# Altium schematic symbol library ICs.SchLib: 134 symbols (part 6 of 7)
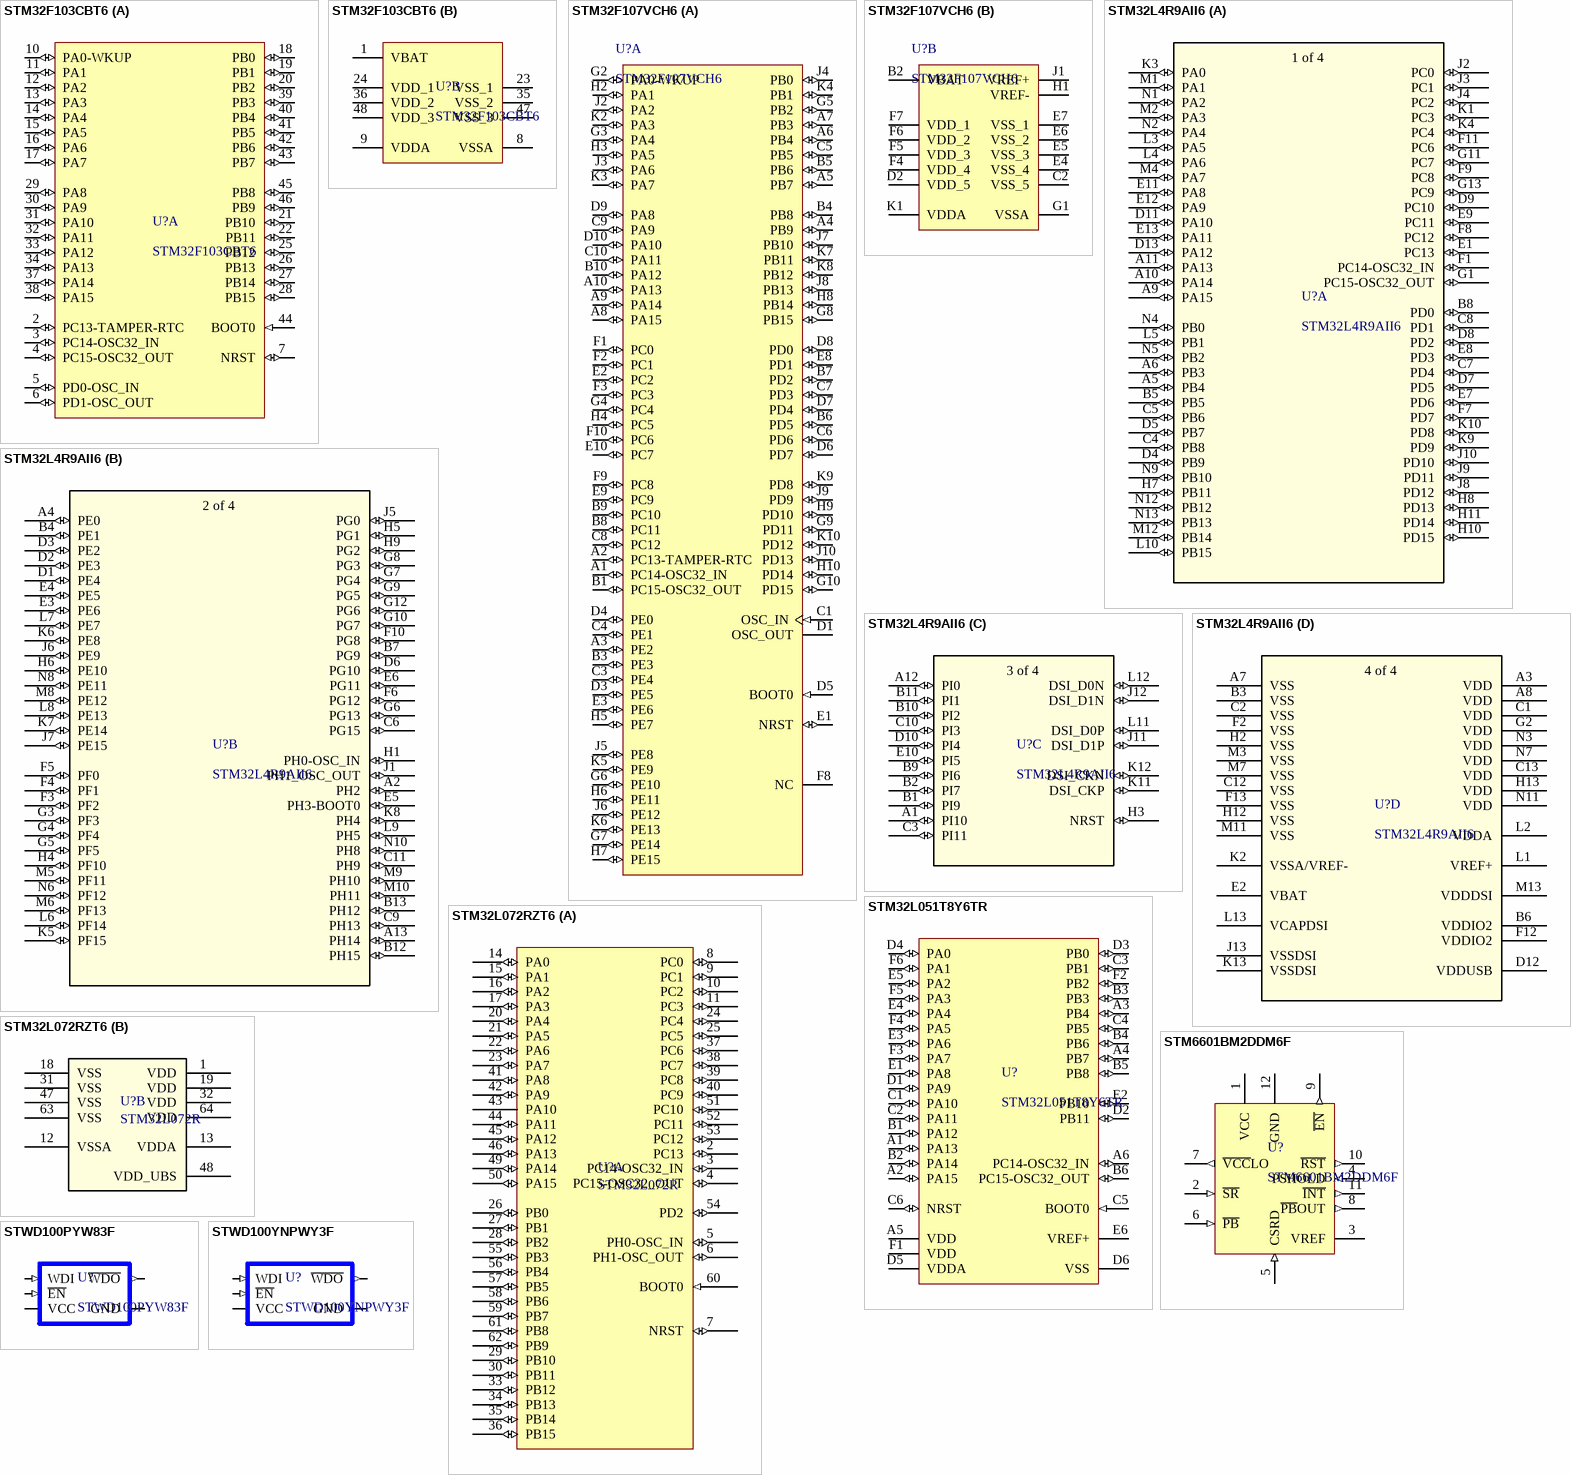
[diagram p31: symbols STM32F103CBT6 to STWD100YNPWY3F]

## STM32L051T8Y6TR
designator U?
Ultra-low-power ARM Cortex-M0+ MCU with 64 Kbytes Flash, 32 MHz CPU; Manufacturer: STMicroelectronics; Supplier: Mouser; Supplier Part Number: 511-STM32L051T8Y6TR; Manufacturer Part Number: STM32L051T8Y6TR; RoHS: Yes; Category: Microcontrollers; Stock: 9000; Pricing: 1=3,78, 10=3,49, 50=3,35, 100=3,01, 1000=2,43, 10000=2,36 (USD); ComponentLink1URL: http://www.mouser.com/ds/2/389/stm32l051c6-956268.pdf?src-supplier=Mouser; ComponentLink1Description: http://www.mouser.com/ds/2/389/stm32l051c6-956268.pdf?src-supplier=Mouser; ComponentLink2URL: http://www.farnell.com/datasheets/2308809.pdf?src-supplier=Farnell; ComponentLink2Description: http://www.farnell.com/datasheets/2308809.pdf?src-supplier=Farnell; ComponentLink3URL: http://www.farnell.com/datasheets/1964276.pdf?src-supplier=Farnell; ComponentLink3Description: http://www.farnell.com/datasheets/1964276.pdf?src-supplier=Farnell; ComponentLink4URL: http://www.st.com/web/en/resource/technical/document/datasheet/DM00108219.pdf?src-supplier=Avnet; ComponentLink4Description: http://www.st.com/web/en/resource/technical/document/datasheet/DM00108219.pdf?src-supplier=Avnet; ComponentLink5URL: http://www.st.com/content/ccc/resource/technical/document/datasheet/9a/75/bd/16/0f/fd/49/19/DM00108219.pdf/files/DM00108219.pdf/jcr:content/translations/en.DM00108219.pdf?src-supplier=Digi-Key; ComponentLink5Description: http://www.st.com/content/ccc/resource/technical/document/datasheet/9a/75/bd/16/0f/fd/49/19/DM00108219.pdf/files/DM00108219.pdf/jcr:content/translations/en.DM00108219.pdf?src-supplier=Digi-Key; ComponentLink6URL: http://www.farnell.com/datasheets/1964276.pdf?src-supplier=Element14; ComponentLink6Description: http://www.farnell.com/datasheets/1964276.pdf?src-supplier=Element14; ComponentLink7URL: https://datasheet.octopart.com/STM32L051T8Y6TR-STMicroelectronics-datasheet-112327230.pdf?src-supplier=LKR; ComponentLink7Description: https://datasheet.octopart.com/STM32L051T8Y6TR-STMicroelectronics-datasheet-112327230.pdf?src-supplier=LKR; Supplier 1: Mouser; Supplier Part Number 1: 511-STM32L051T8Y6TR
footprint BGA36C40P6X6_287X260X59 (BGA, 36-Leads, Body 2,87x2,60mmx0,59mm, Pitch 0,40mm)
pins: A1 PA13 (io), A2 PA15 (io), A3 PB4 (io), A4 PB7 (io), A5 VDD (power), A6 PC14-OSC32_IN (io), B1 PA12 (io), B2 PA14 (io), B3 PB3 (io), B4 PB6 (io), B5 PB8 (io), B6 PC15-OSC32_OUT (io), C1 PA10 (io), C2 PA11 (io), C3 PB1 (io), C4 PB5 (io), C5 BOOT0 (in), C6 NRST (io), D1 PA9 (io), D2 PB11 (io), D3 PB0 (io), D4 PA0 (io), D5 VDDA (power), D6 VSS (power), E1 PA8 (io), E2 PB10 (io), E3 PA6 (io), E4 PA4 (io), E5 PA2 (io), E6 VREF+ (power), F1 VDD (power), F2 PB2 (io), F3 PA7 (io), F4 PA5 (io), F5 PA3 (io), F6 PA1 (io)

## STM32L072RZT6
designator U?, comment STM32L072R
16/32-BITS MICROS; Manufacturer: STMicroelectronics; Manufacturer Part Number: STM32L072RZT6; .CheckedSchemetic: Yes; Core Processor: ARM® Cortex®-M0+; Core Size: 32-Bit; Speed: 32MHz; Connectivity: I²C, IrDA, SPI, UART/USART, USB; Peripherals: Brown-out Detect/Reset, DMA, POR, PWM, WDT; Program Memory Size: 192KB (192K x 8); Program Memory Type: FLASH; EEPROM Size: 6K x 8; RAM Size: 20K x 8; Voltage - Supply (Vcc/Vdd): 1.8 V ~ 3.6 V; Data Converters: A/D 16x12b, D/A 2x12b; Oscillator Type: Internal; Supplier 1: Digi-Key; Supplier Part Number 1: STM32L072RZT6-ND; Stock 1: 0; Pricing 1: 960=2.74564 (USD); ComponentLink1URL: http://www.mouser.com/ds/2/389/stm32l072v8-956310.pdf; ComponentLink1Description: http://www.mouser.com/ds/2/389/stm32l072v8-956310.pdf; ComponentLink2URL: http://www.st.com/content/ccc/resource/technical/document/datasheet/98/e1/71/c0/ae/f5/4b/d4/DM00141133.pdf/files/DM00141133.pdf/jcr:content/translations/en.DM00141133.pdf; ComponentLink2Description: http://www.st.com/content/ccc/resource/technical/document/datasheet/98/e1/71/c0/ae/f5/4b/d4/DM00141133.pdf/files/DM00141133.pdf/jcr:content/translations/en.DM00141133.pdf; .CheckedFootprint: Yes; Supplier 2: Digi-Key; RoHS: RoHS Compliant; Category: Integrated Circuits (ICs); Stock: 957; Pricing: 1=5.36, 10=4.812, 100=3.9429, 500=3.35652, 1000=2.8308 (USD); Packaging: Tray; Part Status: Active; Operating Temperature: -40°C ~ 85°C (TA); Package / Case: 64-LQFP; Supplier Device Package: 64-LQFP (10x10); Supplier Part Number 2: 497-17505-ND
footprint TSQFP50P1200X1200X160-64N (TSQFP, 64-Leads, Body 10.00x10.00mm, Pitch 0.50mm, IPC Medium Density)
part A pins: 2 PC13 (io), 3 PC14-OSC32_IN (io), 4 PC15-OSC32_OUT (io), 5 PH0-OSC_IN (io), 6 PH1-OSC_OUT (io), 7 NRST (io), 8 PC0 (io), 9 PC1 (io), 10 PC2 (io), 11 PC3 (io), 14 PA0 (io), 15 PA1 (io), 16 PA2 (io), 17 PA3 (io), 20 PA4 (io), 21 PA5 (io), 22 PA6 (io), 23 PA7 (io), 24 PC4 (io), 25 PC5 (io), 26 PB0 (io), 27 PB1 (io), 28 PB2 (io), 29 PB10 (io), 30 PB11 (io), 33 PB12 (io), 34 PB13 (io), 35 PB14 (io), 36 PB15 (io), 37 PC6 (io), 38 PC7 (io), 39 PC8 (io), 40 PC9 (io), 41 PA8 (io), 42 PA9 (io), 43 PA10 (power), 44 PA11 (io), 45 PA12 (io), 46 PA13 (io), 49 PA14 (io), 50 PA15 (io), 51 PC10 (io), 52 PC11 (io), 53 PC12 (io), 54 PD2 (io), 55 PB3 (io), 56 PB4 (io), 57 PB5 (io), 58 PB6 (io), 59 PB7 (io), 60 BOOT0 (in), 61 PB8 (io), 62 PB9 (io)
part B pins: 1 VDD (power), 12 VSSA (power), 13 VDDA (power), 18 VSS (power), 19 VDD (power), 31 VSS (power), 32 VDD (power), 47 VSS (power), 48 VDD_UBS (power), 63 VSS (power), 64 VDD (power)

## STM6601BM2DDM6F
designator U?
IC SUPERVISOR 3.1V 12TDFN; Manufacturer: STMicroelectronics; Number of Voltages Monitored: 1; Output: Open Drain or Open Collector; Reset: Active Low; Reset Timeout: 240 ms Minimum; Supplier 1: Digi-Key; Manufacturer Part Number: STM6601BM2DDM6F; RoHS: RoHS Compliant; Category: Integrated Circuits (ICs); Stock 1: 1171; Pricing 1: 1=1.41, 10=1.264, 100=0.9855, 500=0.81412, 1000=0.64272 (USD); Packaging: Digi-Reel®; Part Status: Active; Type: Smart ON/OFF Controller; Voltage - Threshold: 3.1V; Operating Temperature: -40°C ~ 85°C (TA); Mounting Type: Surface Mount; Package / Case: 12-WFDFN; Supplier Device Package: 12-TDFN (2x3); ComponentLink1URL: http://www.st.com/content/ccc/resource/technical/document/datasheet/1f/9e/3b/43/ec/04/44/71/CD00226957.pdf/files/CD00226957.pdf/jcr:content/translations/en.CD00226957.pdf; ComponentLink1Description: http://www.st.com/content/ccc/resource/technical/document/datasheet/1f/9e/3b/43/ec/04/44/71/CD00226957.pdf/files/CD00226957.pdf/jcr:content/translations/en.CD00226957.pdf; Supplier Part Number 1: 497-10130-6-ND
footprint SON50P200X80-12N (SON, 12-Leads, Body 3.00x2.00mm, Pitch 0.50mm, IPC Medium Density)
pins: 1 VCC (power), 2 ~{SR} (in), 3 VREF (power), 4 PSHOLD (in), 5 CSRD (in), 6 ~{PB} (in), 7 ~{VCC}LO (out), 8 ~{PB}OUT (out), 9 ~{EN} (out), 10 ~{RST} (out), 11 ~{INT} (out), 12 GND (power)

## STWD100PYW83F
designator U?
IC WDT CIRCUIT SOT323-5; Manufacturer: STMicroelectronics; Number of Voltages Monitored: 1; Output: Push-Pull, Totem Pole; Reset: Active Low; Reset Timeout: 1.12 s Minimum; Supplier 1: Digi-Key; Manufacturer Part Number: STWD100PYW83F; RoHS: RoHS Compliant; Category: Integrated Circuits (ICs); Stock 1: 1455; Pricing 1: 1=0.89, 10=0.785, 100=0.602, 500=0.47586, 1000=0.38069 (USD); Packaging: Digi-Reel®; Part Status: Active; Type: Watchdog Circuit; Voltage - Threshold: -; Operating Temperature: -40°C ~ 125°C (TA); Mounting Type: Surface Mount; Package / Case: 5-TSSOP, SC-70-5, SOT-353; Supplier Device Package: SOT-323-5; ComponentLink1URL: http://www.st.com/content/ccc/resource/technical/document/datasheet/06/6a/b3/83/9a/c7/4f/22/CD00176077.pdf/files/CD00176077.pdf/jcr:content/translations/en.CD00176077.pdf; ComponentLink1Description: http://www.st.com/content/ccc/resource/technical/document/datasheet/06/6a/b3/83/9a/c7/4f/22/CD00176077.pdf/files/CD00176077.pdf/jcr:content/translations/en.CD00176077.pdf; Supplier Part Number 1: 497-13372-6-ND
footprint SOT65P210X110-5N (SOT23, 5-Leads, Body 2.00x2.10mm, Pitch 0.65mm, IPC Medium Density)
pins: 1 ~{WDO} (out), 2 GND (power), 3 ~{EN} (in), 4 WDI (in), 5 VCC (power)

## STWD100YNPWY3F
designator U?
IC WATCHDOG TIME CIRCUIT SOT23-5; Manufacturer: STMicroelectronics; Number of Voltages Monitored: 1; Output: Open Drain or Open Collector; Reset: Active Low; Reset Timeout: 2.3 ms Minimum; Supplier 1: Digi-Key; Supplier Part Number 1: 497-14076-6-ND; Manufacturer Part Number: STWD100YNPWY3F; RoHS: RoHS Compliant; Category: Integrated Circuits (ICs); Stock 1: 2885; Pricing 1: 1=0.85, 10=0.758, 100=0.591, 500=0.48874, 1000=0.3865 (EUR); Packaging: Digi-Reel®; Part Status: Active; Type: Watchdog Circuit; Voltage - Threshold: -; Operating Temperature: -40°C ~ 125°C (TA); Mounting Type: Surface Mount; Package / Case: SC-74A, SOT-753; Supplier Device Package: SOT-23-5; ComponentLink1URL: http://www.st.com/web/en/resource/technical/document/datasheet/CD00176077.pdf; ComponentLink1Description: http://www.st.com/web/en/resource/technical/document/datasheet/CD00176077.pdf
pins: 1 ~{WDO} (out), 2 GND (power), 3 ~{EN} (in), 4 WDI (in), 5 VCC (power)

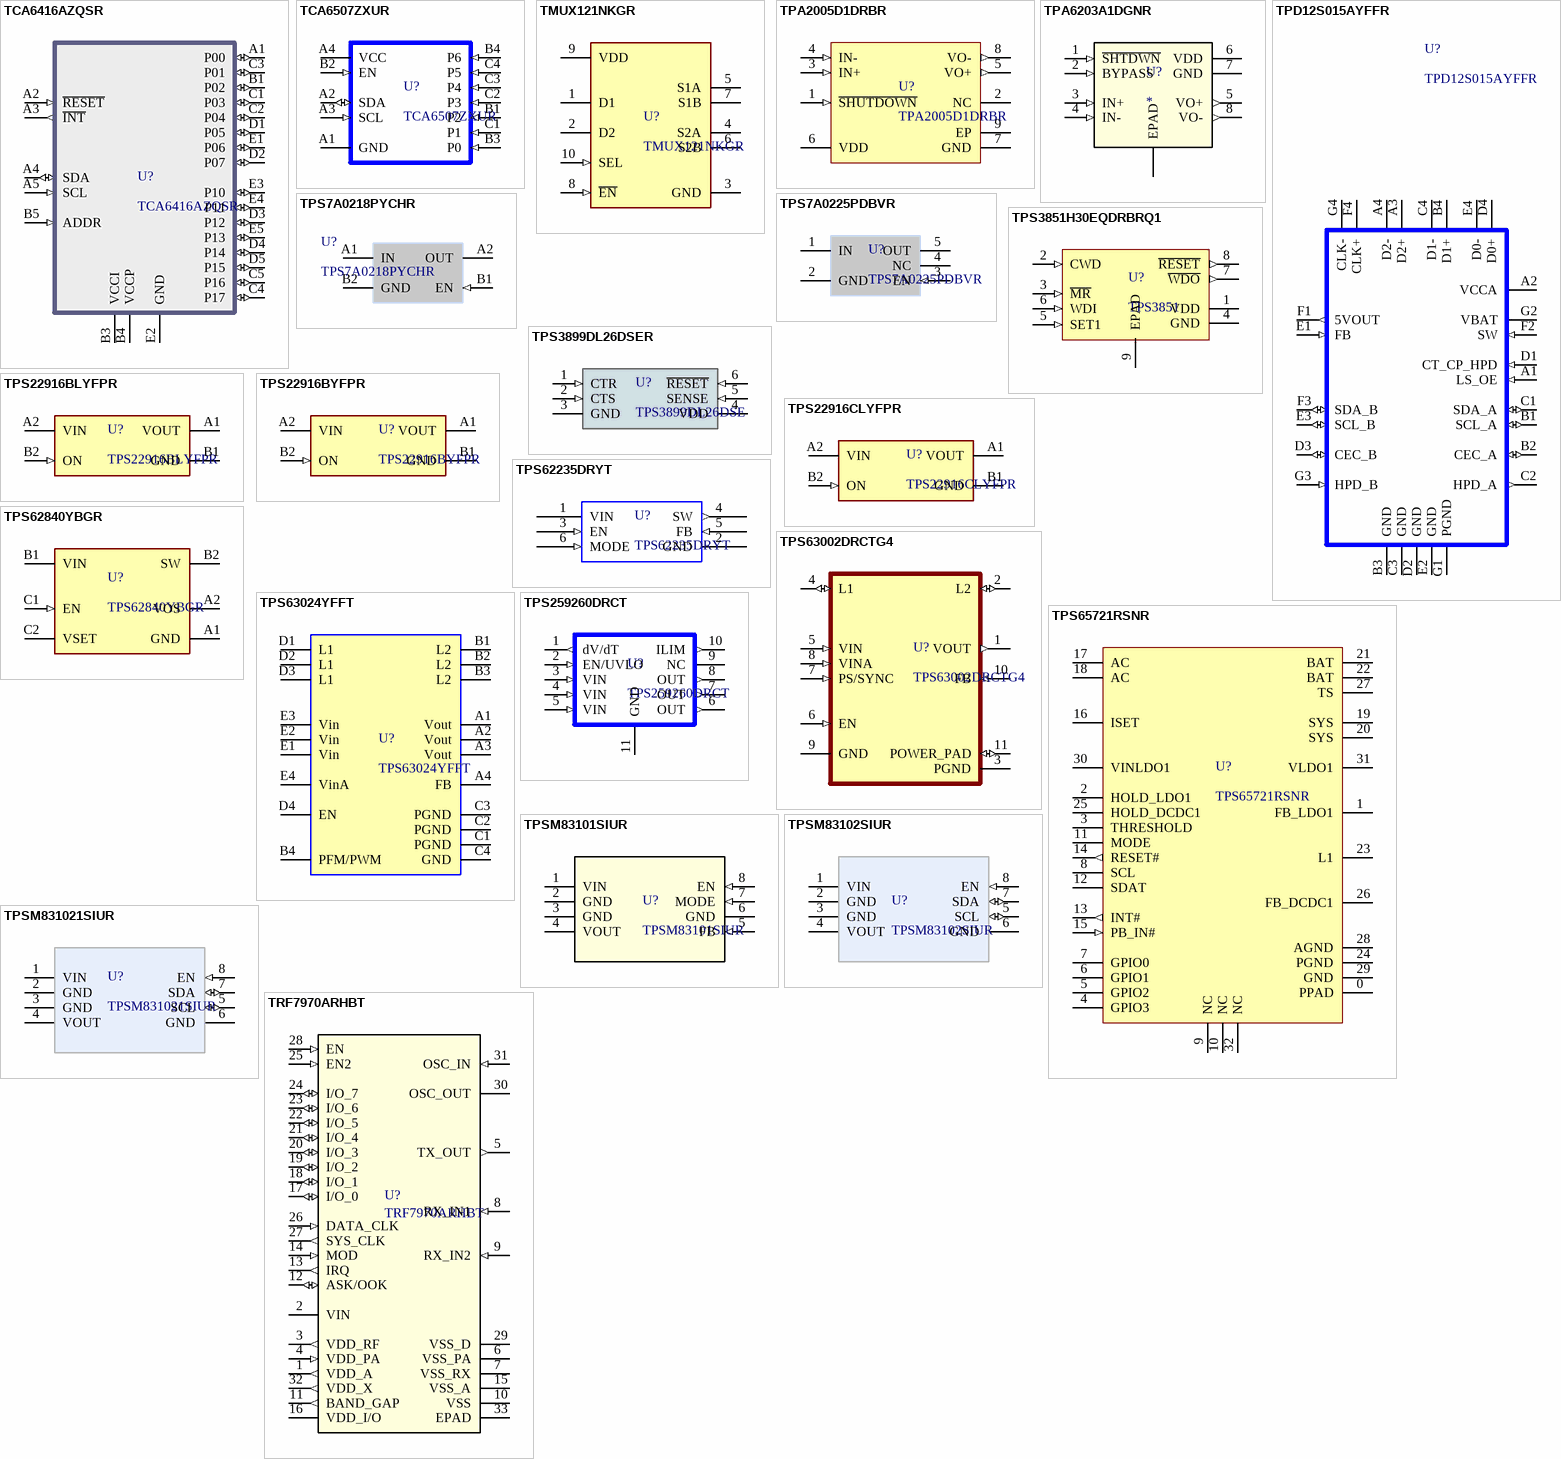
[diagram p25: symbols TCA6416AZQSR to TRF7970ARHBT]

## TCA6416AZQSR
designator U?
IC I/O EXPANDER I2C 16B 24BGA; Manufacturer: Texas Instruments; Number of I/O: 16; Interface: I²C, SMBus; Interrupt Output: Yes; Output Type: Push-Pull; Current - Output Source/Sink: 10mA, 25mA; Frequency - Clock: 400kHz; Voltage - Supply: 1.65 V ~ 5.5 V; Supplier 1: Digi-Key; Supplier Part Number 1: 296-24559-6-ND; Manufacturer Part Number: TCA6416AZQSR; RoHS: RoHS Compliant; Category: Integrated Circuits (ICs); Stock 1: 3272; Pricing 1: 1=1.52, 10=1.356, 100=1.0567, 500=0.87388, 1000=0.69107 (EUR); Packaging: Digi-Reel®; Part Status: Active; Features: POR; Operating Temperature: -40°C ~ 85°C; Mounting Type: Surface Mount; Package / Case: 24-VFBGA; Supplier Device Package: 24-BGA MICROSTAR JUNIOR (3x3); ComponentLink1URL: http://www.ti.com/lit/ds/symlink/tca6416a.pdf; ComponentLink1Description: http://www.ti.com/lit/ds/symlink/tca6416a.pdf
ibis TCA6416AZQS (Model Description)
footprint BGA24C50P5X5_300X300X100 (BGA, 24-Leads, Body 3.00x3.00mmx1.00mm, Pitch 0.50mm)
pins: A1 P00 (io), A2 ~{RESET} (in), A3 ~{INT} (out), A4 SDA (io), A5 SCL (in), B1 P02 (io), B3 VCCI (power), B4 VCCP (power), B5 ADDR (in), C1 P03 (io), C2 P04 (io), C3 P01 (io), C4 P17 (io), C5 P16 (io), D1 P05 (io), D2 P07 (io), D3 P12 (io), D4 P14 (io), D5 P15 (io), E1 P06 (io), E2 GND (power), E3 P10 (io), E4 P11 (io), E5 P13 (io)

## TCA6507ZXUR
designator U?
IC LED DRIVER LINEAR 12-BGA; Manufacturer: Texas Instruments; Topology: Open Drain, PWM; Number of Outputs: 7; Internal Driver: Yes; Type - Primary: General Purpose; Frequency: 100kHz, 400kHz; Voltage - Supply: 1.65 V ~ 3.6 V; Voltage - Output: 5.5V; Supplier 1: Digi-Key; Supplier Part Number 1: 296-22778-6-ND; Manufacturer Part Number: TCA6507ZXUR; RoHS: RoHS Compliant; Category: Integrated Circuits (ICs); Stock 1: 4198; Pricing 1: 1=1.57, 10=1.42, 25=1.2724, 100=1.1444, 250=1.01616, 500=0.88788, 750=0.80403, 1000=0.73497 (EUR); Packaging: Digi-Reel®; Constant Current: -; Constant Voltage: -; Type - Secondary: -; Mounting Type: Surface Mount; Package / Case: 12-UFBGA; Supplier Device Package: 12-BGA MICROSTAR JUNIOR (2.5x2.0); Operating Temperature: -40°C ~ 85°C; ComponentLink1URL: http://www.ti.com/lit/ds/symlink/tca6507.pdf; ComponentLink1Description: http://www.ti.com/lit/ds/symlink/tca6507.pdf
footprint BGA12C50P4X3_250X200X61_2 (BGA, 12-Leads, Body 2.50x2.00mmx0.61mm, Pitch 0.50mm)
pins: A1 GND (power), A2 SDA (io), A3 SCL (in), A4 VCC (power), B1 P2 (in), B2 EN (in), B3 P0 (in), B4 P6 (in), C1 P1 (in), C2 P3 (in), C3 P4 (in), C4 P5 (in)

## TMUX121NKGR
designator U?
2-pF, 3.3-V, 2: 1 (SPDT), 2-channel, switch with 1.8-V compatible logic 10-UQFN -40 to 125; Manufacturer: Texas Instruments; Supplier: Digikey; Supplier Part Number: 296-TMUX121NKGRCT-ND; Manufacturer Part Number: TMUX121NKGR; RoHS: No; Category: Integrated Circuits (ICs); Stock: 3689; Pricing: 1=0.9, 10=0.793, 25=0.7452, 100=0.6082, 250=0.56488, 500=0.48076, 1000=0.38461 (USD); Pins: 10; Length: 1.8mm; Width: 1.4mm; Thickness: 450um; Supplier 1: Mouser; Supplier Part Number 1: 595-TMUX121NKGR; Supplier 2: Digikey; Supplier Part Number 2: 296-TMUX121NKGRCT-ND; Supplier 3: Digikey; Supplier Part Number 3: 296-TMUX121NKGRDKR-ND
footprint FP-NKG0010A-MFG
pins: 1 D1, 2 D2, 3 GND (power), 4 S2A, 5 S1A, 6 S2B, 7 S1B, 8 ~{EN} (in), 9 VDD (power), 10 SEL (in)

## TPA2005D1DRBR
designator U?
IC AMP AUDIO PWR 1.45W MONO 8SON; Manufacturer: Texas Instruments; Supplier: Mouser; Supplier Part Number: 595-TPA2005D1DRBR; Manufacturer Part Number: TPA2005D1DRBR; RoHS: Yes; Category: Amplifiers - Audio; Stock: 3004; Pricing: 1=1,23, 10=1,08, 50=1,08, 100=0,836, 1000=0,569, 10000=0,494 (USD); ComponentLink1URL: https://datasheet.ciiva.com/15131/getdatasheetpartid-202736-15131808.pdf?src-supplier=Verical; ComponentLink1Description: https://datasheet.ciiva.com/15131/getdatasheetpartid-202736-15131808.pdf?src-supplier=Verical; ComponentLink2URL: https://datasheet.ciiva.com/2968/tpa2005d1-2968131.pdf?src-supplier=Avnet; ComponentLink2Description: https://datasheet.ciiva.com/2968/tpa2005d1-2968131.pdf?src-supplier=Avnet; ComponentLink3URL: https://datasheet.ciiva.com/1788/tpa2005d1-1788983.pdf?src-supplier=Digi-Key; ComponentLink3Description: https://datasheet.ciiva.com/1788/tpa2005d1-1788983.pdf?src-supplier=Digi-Key; ComponentLink4URL: https://datasheet.ciiva.com/1788/tpa2005d1-1788984.pdf?src-supplier=Digi-Key; ComponentLink4Description: https://datasheet.ciiva.com/1788/tpa2005d1-1788984.pdf?src-supplier=Digi-Key; ComponentLink5URL: https://datasheet.ciiva.com/1788/tpa2005d1-1788985.pdf?src-supplier=Digi-Key; ComponentLink5Description: https://datasheet.ciiva.com/1788/tpa2005d1-1788985.pdf?src-supplier=Digi-Key; ComponentLink6URL: https://datasheet.ciiva.com/1490/1633631-1490332.pdf?src-supplier=Farnell; ComponentLink6Description: https://datasheet.ciiva.com/1490/1633631-1490332.pdf?src-supplier=Farnell; ComponentLink7URL: https://datasheet.ciiva.com/22712/1808393-22712155.pdf?src-supplier=Element14; ComponentLink7Description: https://datasheet.ciiva.com/22712/1808393-22712155.pdf?src-supplier=Element14; ComponentLink8URL: https://datasheet.ciiva.com/1481/1808393-1481981.pdf?src-supplier=Element14; ComponentLink8Description: https://datasheet.ciiva.com/1481/1808393-1481981.pdf?src-supplier=Element14; Supplier 1: Mouser; Supplier Part Number 1: 595-TPA2005D1DRBR
footprint SON65P300X40_HS-9N (SON, 8-Leads, Body 3,00x3,00mm, Pitch 0,65mm, Thermal Pad 1,75x1,49mm, IPC Medium Density)
pins: 1 ~{SHUTDOWN} (in) "Shutdown terminal (active low logic)", 2 NC "No internal connection", 3 IN+ (in) "Positive differential input", 4 IN- (in) "Negative differential input", 5 VO+ (out) "Positive BTL output", 6 VDD (power) "Power supply", 7 GND (power) "High-current ground", 8 VO- (out) "Negative BTL output", 9 EP (power) "Must be soldered to a grounded pad on the PCB."

## TPA6203A1DGNR
designator U?
TEXAS INSTRUMENTS         TPA6203A1DGNR             Audio Power Amplifier, AB, 1 Channel, 1.25 W, 2.5V to 5.5V, MSOP, 8 Pins; Output Power: 1.25W; Nominal Supply Current: 1.7mA; Common Mode Rejection Ratio: 70dB; Max Power Dissipation: 2.14W; Number of Channels: 1; Power Supply Rejection Ratio (PSRR): -90dB; Supply Type: Single; Load Impedance: 8R; Supplier 1: Digi-Key; Manufacturer: Texas Instruments; Manufacturer Part Number: TPA6203A1DGNR; Stock 1: 3366; Pricing 1: 1=0.88, 10=0.79, 100=0.6159, 500=0.50882, 1000=0.4017 (USD); Case/Package: MSOP; Number of Pins: 8; Weight: 0.00067oz; Contact Plating: Gold; Min Operating Temperature: -40°C; Max Operating Temperature: 85°C; Packaging: Tape and Reel; Package Quantity: 2500; Max Output Power: 1.25W; Min Supply Voltage: 2.5V; Max Supply Voltage: 5.5V; Quiescent Current: 1.7mA; Radiation Hardening: No; Lead Free: Lead Free; REACH SVHC: No SVHC; ComponentLink1URL: https://datasheet.ciiva.com/1788/tpa6203a1-1788940.pdf; ComponentLink1Description: https://datasheet.ciiva.com/1788/tpa6203a1-1788940.pdf; ComponentLink2URL: https://datasheet.ciiva.com/8049/1851976-8049821.pdf; ComponentLink2Description: https://datasheet.ciiva.com/8049/1851976-8049821.pdf; ComponentLink3URL: https://datasheet.ciiva.com/2970/tpa6203a1-2970139.pdf; ComponentLink3Description: https://datasheet.ciiva.com/2970/tpa6203a1-2970139.pdf; ComponentLink4URL: https://datasheet.ciiva.com/1788/tpa6203a1-1788938.pdf; ComponentLink4Description: https://datasheet.ciiva.com/1788/tpa6203a1-1788938.pdf; ComponentLink5URL: https://datasheet.ciiva.com/1788/tpa6203a1-1788939.pdf; ComponentLink5Description: https://datasheet.ciiva.com/1788/tpa6203a1-1788939.pdf; Supplier Part Number 1: 296-19604-1-ND
footprint TSOP65P490X110_HS-9N (TSOP, 8-Leads, Body 3.00x3.00mm, Pitch 0.65mm, Thermal Pad 1.89x1.57mm, IPC Medium Density)
pins: 1 ~{SHTDWN} (in), 2 BYPASS (in), 3 IN+ (in), 4 IN- (in), 5 VO+ (out), 6 VDD (power), 7 GND (power), 8 VO- (out), 9 EPAD

## TPD12S015AYFFR
designator U?
IC HDMI ESD PROT 28DSBGA; Manufacturer: Texas Instruments; Voltage - Supply: 1.1 V ~ 3.6 V, 2.3 V ~ 5.5 V; Supplier 1: Digi-Key; Manufacturer Part Number: TPD12S015AYFFR; RoHS: RoHS Compliant; Category: Integrated Circuits (ICs); Stock 1: 2225; Pricing 1: 1=1.43, 10=1.281, 100=1.0278, 500=0.84472, 1000=0.58661 (GBP); Packaging: Digi-Reel®; Part Status: Active; Applications: PDA's, Portable Audio/Video, Smartphones; Interface: HDMI; Package / Case: 28-UFBGA, DSBGA; Supplier Device Package: 28-DSBGA (2.79x1.59); Mounting Type: Surface Mount; ComponentLink1URL: http://www.ti.com/lit/ds/symlink/tpd12s015a.pdf; ComponentLink1Description: http://www.ti.com/lit/ds/symlink/tpd12s015a.pdf; Supplier Part Number 1: 296-29060-6-ND
footprint BGA28C40P4X7_156X276X62 (BGA, 28-Leads, Body 1.56x2.76mmx0.63mm, Pitch 0.40mm)
ibis TPD12S015AYFF (Model Description)
pins: A1 LS_OE (in), A2 VCCA (power), A3 D2+, A4 D2-, B1 SCL_A (io), B2 CEC_A (io), B3 GND (power), B4 D1+, C1 SDA_A (io), C2 HPD_A (out), C3 GND (power), C4 D1-, D1 CT_CP_HPD (in), D2 GND (power), D3 CEC_B (io), D4 D0+, E1 FB (in), E2 GND (power), E3 SCL_B (io), E4 D0-, F1 5VOUT (out), F2 SW (in), F3 SDA_B (io), F4 CLK+, G1 PGND (power), G2 VBAT (power), G3 HPD_B (in), G4 CLK-

## TPS7A0218PYCHR
designator U?
200-mA, nanopower-IQ (25 nA), low-dropout (LDO) voltage regulator with enable 4-DSBGA -40 to 125; Manufacturer: Texas Instruments; Supplier: Mouser; Supplier Part Number: 595-TPS7A0218PYCHR; Manufacturer Part Number: TPS7A0218PYCHR; RoHS: Yes; Category: Integrated Circuits (ICs); Stock: 20623; Pricing: 1=0,93, 10=0,93, 50=0,93, 100=0,715, 1000=0,452, 10000=0,41 (USD); Supplier 1: Mouser; Supplier Part Number 1: 595-TPS7A0218PYCHR
footprint BGA4C35P2X2_64X64X40 (BGA, 4-Leads, Body 0,64x0,64mmx0,40mm, Pitch 0,35mm)
pins: A1 IN (power), A2 OUT (power), B1 EN (in), B2 GND (power)

## TPS7A0225PDBVR
designator U?
LDO Regulator 25nA 200mA 0.8V to 5V With Fast Transient Response 5-Pin SOT-23 T/R; Manufacturer: Texas Instruments; Supplier: Mouser; Supplier Part Number: 595-TPS7A0225PDBVR; Manufacturer Part Number: TPS7A0225PDBVR; RoHS: Yes; Category: Integrated Circuits (ICs); Stock: 5252; Pricing: 1=0.77, 10=0.548, 50=0.493, 100=0.432, 1000=0.371, 10000=0.33 (USD); Supplier 1: Mouser; Supplier Part Number 1: 595-TPS7A0225PDBVR
footprint SOT95P280X145-5N
pins: 1 IN (power), 2 GND (power), 3 EN (in), 4 NC (power), 5 OUT (power)

## TPS3851H30EQDRBRQ1
designator U?, comment TPS3851
VOLTAGE SUPERVISOR WITH WATCHDOG; Manufacturer: Texas Instruments; Manufacturer Part Number: TPS3851H30EQDRBRQ1; Output: Open Drain or Open Collector; Reset: Active Low; Reset Timeout: 170 ms Minimum; Voltage - Threshold: 3V; .CheckedFootprint: Yes; Supplier 1: Digi-Key; RoHS: RoHS Compliant; Category: Integrated Circuits (ICs); Stock: 3265; Pricing: 1=2.05, 10=1.842, 100=1.4809, 500=1.21668, 1000=1.00811 (USD); Packaging: Digi-Reel®; Part Status: Active; Type: Simple Reset/Power-On Reset; Operating Temperature: -40°C ~ 125°C (TJ); Mounting Type: Surface Mount; Package / Case: 8-VDFN Exposed Pad; Supplier Device Package: 8-SON (3x3); ComponentLink1URL: http://www.ti.com/lit/ds/symlink/tps3851-q1.pdf; ComponentLink1Description: http://www.ti.com/lit/ds/symlink/tps3851-q1.pdf; Supplier Part Number 1: 296-46978-6-ND; .CheckedSchematic: Yes
footprint SON65P300X100_HS-9N (SON, 8-Leads, Body 3.00x3.00mm, Pitch 0.65mm, Thermal Pad 0.86x0.43mm, IPC Medium Density)
pins: 1 VDD (power), 2 CWD (in), 3 ~{MR} (in), 4 GND (power), 5 SET1 (in), 6 WDI (in), 7 ~{WDO} (out), 8 ~{RESET} (out), 9 EPAD (power)

## TPS3899DL26DSER
designator U?, comment TPS3899DL26DSE
Nanopower supervisor with programmable sense and reset delay 6-WSON -40 to 125; Manufacturer: Texas Instruments; Manufacturer Part Number: TPS3899DL26DSER; Supplier: Digi-Key; Supplier Part Number: 296-TPS3899DL26DSERCT-ND; RoHS: No; Category: Voltage Supervisors; Stock: 1845; Pricing: 1=1,4, 10=1,251, 25=1,1876, 100=0,9757, 250=0,91204, 500=0,80598, 1000=0,6363 (USD); Supplier 1: Digi-Key; Supplier Part Number 1: 296-TPS3899DL26DSERCT-ND
footprint PSON50P150X80-6N (PSON, 6-Leads, Body 1,50x1,50mm, Pitch 0,50mm, IPC Medium Density)
pins: 1 CTR (in), 2 CTS (in), 3 GND (power), 4 VDD (power), 5 SENSE (in), 6 ~{RESET} (in)

## TPS22916BLYFPR
designator U?
5.5-V, 2-A, 60-mΩ, 10-nA leakage load switch with output discharge 4-DSBGA -40 to 85; Manufacturer: Texas Instruments; Supplier: Digikey; Supplier Part Number: 296-TPS22916BLYFPRCT-ND; Manufacturer Part Number: TPS22916BLYFPR; RoHS: No; Category: Integrated Circuits (ICs); Stock: 2472; Pricing: 1=0.66, 10=0.563, 25=0.5256, 100=0.4204, 250=0.3904, 500=0.33034, 1000=0.25527 (USD); Supplier 1: Mouser; Supplier Part Number 1: 595-TPS22916BLYFPR; Supplier 2: Digikey; Supplier Part Number 2: 296-TPS22916BLYFPRDKR-ND
footprint BGA4C40P2X2_78X78X50 (BGA, 4-Leads, Body 0,78x0,78mmx0,50mm, Pitch 0,40mm)
pins: A1 VOUT (power), A2 VIN (power), B1 GND (power), B2 ON (in)

## TPS22916BYFPR
designator U?
5.5-V, 2-A, 60-mΩ, 10-nA leakage load switch with output discharge 4-DSBGA -40 to 85; Manufacturer: Texas Instruments; Supplier: Mouser; Supplier Part Number: 595-TPS22916BYFPR; Manufacturer Part Number: TPS22916BYFPR; RoHS: Yes; Category: Integrated Circuits (ICs); Stock: 1206; Pricing: 1=0.53, 10=0.426, 50=0.426, 100=0.316, 1000=0.207, 10000=0.176 (USD); Pins: 4NUMBER; Width: 0m; Height: 500um; Thickness: 0m; ComponentLink1URL: http://www.ti.com/lit/ds/symlink/tps22916.pdf?src-supplier=Digikey; ComponentLink1Description: http://www.ti.com/lit/ds/symlink/tps22916.pdf?src-supplier=Digikey; ComponentLink2URL: http://www.ti.com/general/docs/suppproductinfo.tsp?distId=10&amp;gotoUrl=http%3A%2F%2Fwww.ti.com%2Flit%2Fgpn%2Ftps22916&src-supplier=Digikey; ComponentLink2Description: http://www.ti.com/general/docs/suppproductinfo.tsp?distId=10&amp;gotoUrl=http%3A%2F%2Fwww.ti.com%2Flit%2Fgpn%2Ftps22916&src-supplier=Digikey; Supplier 1: Mouser; Supplier Part Number 1: 595-TPS22916BYFPR
footprint BGA4C40P2X2_78X78X50 (BGA, 4-Leads, Body 0,78x0,78mmx0,50mm, Pitch 0,40mm)
pins: A1 VOUT (power), A2 VIN (power), B1 GND (power), B2 ON (in)

## TPS22916CLYFPR
designator U?
TPS22916CL Single-Channel Ultra-Low Leakage Load Switch 2A 60 mΩ 1V to 5.5V 4-Pin DSBGA T/R; Manufacturer: Texas Instruments; Supplier: Mouser; Supplier Part Number: 595-TPS22916CLYFPR; Manufacturer Part Number: TPS22916CLYFPR; RoHS: Yes; Category: Power Management ICs; Stock: 5015; Pricing: 1=0,42, 10=0,357, 50=0,357, 100=0,29, 1000=0,215, 10000=0,191 (USD); ComponentLink1URL: http://www.ti.com/general/docs/suppproductinfo.tsp?distId=10&amp;gotoUrl=http%3A%2F%2Fwww.ti.com%2Flit%2Fgpn%2Ftps22916&src-supplier=Digi-Key; ComponentLink1Description: http://www.ti.com/general/docs/suppproductinfo.tsp?distId=10&amp;gotoUrl=http%3A%2F%2Fwww.ti.com%2Flit%2Fgpn%2Ftps22916&src-supplier=Digi-Key; ComponentLink2URL: http://www.ti.com/lit/ds/symlink/tps22916.pdf?src-supplier=Digi-Key; ComponentLink2Description: http://www.ti.com/lit/ds/symlink/tps22916.pdf?src-supplier=Digi-Key; Supplier 1: Mouser; Supplier Part Number 1: 595-TPS22916CLYFPR
footprint BGA4C40P2X2_78X78X50 (BGA, 4-Leads, Body 0,78x0,78mmx0,50mm, Pitch 0,40mm)
pins: A1 VOUT (power), A2 VIN (power), B1 GND (power), B2 ON (in)

## TPS62235DRYT
designator U?
IC REG BUCK 1.2V 0.5A SYNC 6SON; Manufacturer: Texas Instruments; Function: Step-Down; Output Configuration: Positive; Output Type: Fixed; Number of Outputs: 1; Voltage - Input (Min): 2.05V; Voltage - Input (Max): 6V; Current - Output: 500mA; Frequency - Switching: 2MHz; Synchronous Rectifier: Yes; Supplier 1: Digi-Key; Manufacturer Part Number: TPS62235DRYT; RoHS: RoHS Compliant; Category: Integrated Circuits (ICs); Stock 1: 3245; Pricing 1: 1=1.22, 10=1.093, 100=0.8525 (GBP); Packaging: Digi-Reel®; Part Status: Active; Topology: Buck; Voltage - Output (Min/Fixed): 1.2V; Voltage - Output (Max): -; Operating Temperature: -40°C ~ 125°C (TJ); Mounting Type: Surface Mount; Package / Case: 6-UFDFN; Supplier Device Package: 6-SON (1.45x1); ComponentLink1URL: http://www.ti.com/lit/ds/symlink/tps62230.pdf; ComponentLink1Description: http://www.ti.com/lit/ds/symlink/tps62230.pdf; Supplier Part Number 1: 296-25628-6-ND
footprint SON50P100X60-6N (SON, 6-Leads, Body 1.45x1.00mm, Pitch 0.50mm, IPC Medium Density)
pins: 1 VIN (power), 2 GND (power), 3 EN (in), 4 SW (out), 5 FB (in), 6 MODE (in)

## TPS62840YBGR
designator U?
Conv DC-DC 1.8V to 6.5V Synchronous Step Down Single-Out 1.8V to 3.3V 0.75A 6-Pin DSBGA T/R; Manufacturer: Texas Instruments; Supplier: Mouser; Supplier Part Number: 595-TPS62840YBGR; Manufacturer Part Number: TPS62840YBGR; RoHS: Yes; Category: Voltage Regulators - Switching; Stock: 2271; Pricing: 1=1,97, 10=1,77, 50=1,77, 100=1,42, 1000=0,972, 10000=0,865 (USD); Supplier 1: Mouser; Supplier Part Number 1: 595-TPS62840YBGR
footprint BGA6C40P2X3_97X147X50 (BGA, 6-Leads, Body 0,97x1,47mmx0,50mm, Pitch 0,40mm)
pins: A1 GND (power), A2 VOS (power), B1 VIN (power), B2 SW (power), C1 EN (in), C2 VSET (power)

## TPS63002DRCTG4
designator U?
96% Buck-Boost Converter with 1.7A Current Switches, 5V fixed Output voltage in 3x3 QFN 10-VSON -40 to 125; Manufacturer: Texas Instruments; Manufacturer Lifecycle Status: ACTIVE; Max Supply Voltage: 5.5V; Max Output current: 1.2A; Min Input Voltage: 1.8V; Nominal Supply Current: 50µA; Number of Outputs: 1; Quiescent Current: 30µA; Switching Frequency: 1.5MHz; Synchronous Rectifier: Yes; Supplier: DigiKey; Supplier Part Number: TPS63002DRCTG4-ND; Manufacturer Part Number: TPS63002DRCTG4; RoHS: Compliant; Category: Voltage Regulators - Switching; Stock: 250; Pricing: 250=1.67128, 500=1.61384, 750=1.58508, 1250=1.55321, 1750=1.53458, 2500=1.51666, 6250=1.47809 (USD); Efficiency: 96%; Height: 1mm; Lead Free: Lead Free; Length: 3mm; Lifecycle Status: Production; Max Operating Temperature: 85°C; Max Output Voltage: 5V; Min Operating Temperature: -40°C; Min Output Voltage: 5V; Pins: 10; Operating Supply Voltage: 5.5V; Output Current: 1.2A; Output Type: Fixed; Output Voltage: 5V; Packaging: Tape & Reel (TR); Radiation Hardening: No; Thickness: 900µm; Topology: Buck-Boost; Weight: 26.109911mg; Width: 3mm; ComponentLink1URL: https://sigma.octopart.com:443/104365911/technical_drawing/Texas-Instruments-TPS63002DRCTG4.pdf?src-supplier=Texas+Instruments; ComponentLink1Description: https://sigma.octopart.com:443/104365911/technical_drawing/Texas-Instruments-TPS63002DRCTG4.pdf?src-supplier=Texas+Instruments; ComponentLink2URL: https://octopart.com:443/opatz8j6/c1?t=A8cqxknK9weN1ztOCixi-pRENrMBrZzXqKggdYbI5yribguBZjSNUJ5RAQG8bjAk3Ewp_MhOntPg8n7O7FBQsC2HtufZ3gk15olXRUOjE0zHCcCFZ_FKrqBK716Gvuwi0BswdphKR4jyEnXrFl2rVr-yNKvlpD6YMXNTX2kWOg7mGIczkmyiqotC9ewASFSGr2B3hVXRsUkf0eYnseFnsi8YaUPEiuu09I7LA73QmncIRxf5TV0EFLHJm2k5FxG9KoL4kOXjK3ei-vCPJQIhr3tSTSAYWhynfz3WW6HJQbsyLK3orzV7PuW80nOwQD-PrfjHeQRZmXO1_-0SfJbx2_HvvNOHc4qdygT9Bxq88LVATiU8bg4FkZJtk8oxIf_GDsuGq5I&src-supplier=Texas+Instruments; ComponentLink2Description: https://octopart.com:443/opatz8j6/c1?t=A8cqxknK9weN1ztOCixi-pRENrMBrZzXqKggdYbI5yribguBZjSNUJ5RAQG8bjAk3Ewp_MhOntPg8n7O7FBQsC2HtufZ3gk15olXRUOjE0zHCcCFZ_FKrqBK716Gvuwi0BswdphKR4jyEnXrFl2rVr-yNKvlpD6YMXNTX2kWOg7mGIczkmyiqotC9ewASFSGr2B3hVXRsUkf0eYnseFnsi8YaUPEiuu09I7LA73QmncIRxf5TV0EFLHJm2k5FxG9KoL4kOXjK3ei-vCPJQIhr3tSTSAYWhynfz3WW6HJQbsyLK3orzV7PuW80nOwQD-PrfjHeQRZmXO1_-0SfJbx2_HvvNOHc4qdygT9Bxq88LVATiU8bg4FkZJtk8oxIf_GDsuGq5I&src-supplier=Texas+Instruments; ComponentLink3URL: https://datasheet.octopart.com:443/TPS63002DRCTG4-Texas-Instruments-datasheet-33460674.pdf?src-supplier=Texas+Instruments; ComponentLink3Description: https://datasheet.octopart.com:443/TPS63002DRCTG4-Texas-Instruments-datasheet-33460674.pdf?src-supplier=Texas+Instruments; ComponentLink4URL: https://sigma.octopart.com:443/49250247/technical_drawing/Texas-Instruments-TPS63002DRCTG4.pdf?src-supplier=Texas+Instruments; ComponentLink4Description: https://sigma.octopart.com:443/49250247/technical_drawing/Texas-Instruments-TPS63002DRCTG4.pdf?src-supplier=Texas+Instruments; ComponentLink5URL: https://datasheet.octopart.com:443/TPS63002DRCTG4-Texas-Instruments-datasheet-10258521.pdf?src-supplier=Texas+Instruments; ComponentLink5Description: https://datasheet.octopart.com:443/TPS63002DRCTG4-Texas-Instruments-datasheet-10258521.pdf?src-supplier=Texas+Instruments; ComponentLink6URL: https://datasheet.octopart.com:443/TPS63002DRCTG4-Texas-Instruments-datasheet-148853.pdf?src-supplier=Texas+Instruments; ComponentLink6Description: https://datasheet.octopart.com:443/TPS63002DRCTG4-Texas-Instruments-datasheet-148853.pdf?src-supplier=Texas+Instruments; ComponentLink7URL: https://datasheet.octopart.com:443/TPS63002DRCTG4-Texas-Instruments-datasheet-10257500.pdf?src-supplier=Texas+Instruments; ComponentLink7Description: https://datasheet.octopart.com:443/TPS63002DRCTG4-Texas-Instruments-datasheet-10257500.pdf?src-supplier=Texas+Instruments; ComponentLink8URL: https://datasheet.octopart.com:443/TPS63002DRCTG4-Texas-Instruments-datasheet-82285885.pdf?src-supplier=Upverter; ComponentLink8Description: https://datasheet.octopart.com:443/TPS63002DRCTG4-Texas-Instruments-datasheet-82285885.pdf?src-supplier=Upverter; ComponentLink9URL: http://sigma.octopart.com:80/reach_statement/Texas-Instruments-company-64.pdf?src-supplier=Compliance+Statements; ComponentLink9Description: http://sigma.octopart.com:80/reach_statement/Texas-Instruments-company-64.pdf?src-supplier=Compliance+Statements; ComponentLink10URL: http://sigma.octopart.com:80/conflict_mineral_statement/Texas-Instruments-company-63.pdf?src-supplier=Compliance+Statements; ComponentLink10Description: http://sigma.octopart.com:80/conflict_mineral_statement/Texas-Instruments-company-63.pdf?src-supplier=Compliance+Statements
footprint VREG_V62/16624-01YE
pins: 1 VOUT (out), 2 L2 (io), 3 PGND (power), 4 L1 (io), 5 VIN (in), 6 EN (in), 7 PS/SYNC (in), 8 VINA (in), 9 GND (power), 10 FB (in), 11 POWER_PAD (io)

## TPS63024YFFT
designator U?
IC REG BCK BST ADJ 2.12A 20DSBGA; Manufacturer: Texas Instruments; Function: Step-Up/Step-Down; Output Configuration: Positive; Topology: Buck-Boost; Output Type: Adjustable; Number of Outputs: 1; Voltage - Input (Min): 2.3V; Voltage - Input (Max): 5.5V; Voltage - Output (Min/Fixed): 2.5V; Voltage - Output (Max): 3.6V; Current - Output: 2.12A (Switch); Frequency - Switching: 2.5MHz; Synchronous Rectifier: Yes; Supplier 1: Digi-Key; Supplier Part Number 1: 296-40855-6-ND; Manufacturer Part Number: TPS63024YFFT; RoHS: RoHS Compliant; Category: Integrated Circuits (ICs); Stock 1: 770; Pricing 1: 1=3.13, 10=2.803, 25=2.5212, 100=2.2929 (EUR); Packaging: Digi-Reel®; Operating Temperature: -40°C ~ 85°C (TA); Mounting Type: Surface Mount; Package / Case: 20-UFBGA, DSBGA; Supplier Device Package: 20-DSBGA; ComponentLink1URL: http://www.ti.com/lit/ds/symlink/tps630241.pdf; ComponentLink1Description: http://www.ti.com/lit/ds/symlink/tps630241.pdf
footprint BGA20C40P4X5_177X209X62 (BGA, 20-Leads, Body 1.77x2.09mmx0.63mm, Pitch 0.40mm)
pins: A1 Vout, A2 Vout, A3 Vout, A4 FB, B1 L2, B2 L2, B3 L2, B4 PFM/PWM, C1 PGND, C2 PGND, C3 PGND, C4 GND, D1 L1, D2 L1, D3 L1, D4 EN, E1 Vin, E2 Vin, E3 Vin, E4 VinA

## TPS65721RSNR
designator U?
IC PMU 2CH CONV/LDO 32QFN; Manufacturer: Texas Instruments; Voltage - Supply: 2.3 V ~ 5.6 V; Supplier 1: Digi-Key; Supplier Part Number 1: 296-25360-6-ND; Manufacturer Part Number: TPS65721RSNR; RoHS: RoHS Compliant; Category: Integrated Circuits (ICs); Stock 1: 2985; Pricing 1: 1=3.74, 10=3.352, 25=3.0144, 100=2.7416, 250=2.48172, 500=2.22184, 750=2.01393, 1000=1.62414 (EUR); Packaging: Digi-Reel®; Applications: Handheld/Mobile Devices; Current - Supply: -; Operating Temperature: -40°C ~ 85°C; Mounting Type: Surface Mount; Package / Case: 32-WFQFN Exposed Pad; Supplier Device Package: 32-QFN (4x4); ComponentLink1URL: http://www.ti.com/lit/ds/symlink/tps65720.pdf; ComponentLink1Description: http://www.ti.com/lit/ds/symlink/tps65720.pdf
footprint QFN40P400X400X80_HS-33N_2 (QFN, 32-Leads, Body 4.00x4.00mm, Pitch 0.40mm, Thermal Pad 2.80x2.80mm, IPC Medium Density)
pins: 0 PPAD, 1 FB_LDO1, 2 HOLD_LDO1, 3 THRESHOLD, 4 GPIO3, 5 GPIO2, 6 GPIO1, 7 GPIO0, 8 SCL, 9 NC, 10 NC, 11 MODE, 12 SDAT, 13 INT# (out), 14 RESET# (out), 15 PB_IN# (in), 16 ISET, 17 AC, 18 AC, 19 SYS, 20 SYS, 21 BAT, 22 BAT, 23 L1, 24 PGND, 25 HOLD_DCDC1, 26 FB_DCDC1, 27 TS, 28 AGND, 29 GND, 30 VINLDO1, 31 VLDO1, 32 NC

## TPS259260DRCT
designator U?
IC EFUSE 12V BFET DVR 5A 10VSON; Manufacturer: Texas Instruments; Number of Channels: 1; Internal Switch(s): Yes; Programmable Features: Current Limit, Slew Rate, UVLO; Voltage - Supply: 4.5 V ~ 13.8 V; Current - Supply: 470µA; Feature Pins: EN; Supplier 1: Digi-Key; Supplier Part Number 1: 296-42968-6-ND; Manufacturer Part Number: TPS259260DRCT; RoHS: RoHS Compliant; Category: Integrated Circuits (ICs); Stock 1: 437; Pricing 1: 1=1.19, 10=1.069, 100=0.8573 (GBP); Packaging: Digi-Reel®; Part Status: Active; Type: Hot Swap Controller; Applications: General Purpose; Features: Latched Fault, OVP, Thermal Limit; Current - Output (Max): 5A; Operating Temperature: -40°C ~ 85°C; Mounting Type: Surface Mount; Package / Case: 10-VFDFN Exposed Pad; Supplier Device Package: 10-VSON (3x3); ComponentLink1URL: http://www.ti.com/lit/ds/symlink/tps25925.pdf; ComponentLink1Description: http://www.ti.com/lit/ds/symlink/tps25925.pdf
footprint SON50P300X100_HS-11N (SON, 10-Leads, Body 3.00x3.00mm, Pitch 0.50mm, Thermal Pad 2.40x1.49mm, IPC Medium Density)
pins: 1 dV/dT (out), 2 EN/UVLO (in), 3 VIN (in), 4 VIN (in), 5 VIN (in), 6 OUT (out), 7 OUT (out), 8 OUT (out), 9 NC, 10 ILIM (out), 11 GND (power)

## TPSM83101SIUR
designator U?
1.5A high-efficiency buck-boost module with integrated inductor 8-uSiP -40 to 125; Manufacturer: Texas Instruments; Supplier: Mouser; Supplier Part Number: 595-TPSM83101SIUR; Manufacturer Part Number: TPSM83101SIUR; RoHS: No; Stock: 2221; Pricing: 1=6.7, 10=6.01, 50=6.01, 100=4.93, 1000=3.74, 10000=3.17 (USD); Pins: 8; Topology: Buck-Boost; Length: 2.6mm; Width: 2mm; Thickness: 1.15mm; Supplier 1: Mouser; Supplier Part Number 1: 595-TPSM83101SIUR
footprint MICROSIP8_SIU_TEX-M
pins: 1 VIN (power), 2 GND (power), 3 GND (power), 4 VOUT (power), 5 FB (in), 6 GND (power), 7 MODE (in), 8 EN (in)

## TPSM83102SIUR
designator U?
1.5A output current, buck-boost MicroSiP™ power module with integrated inductor with I²C 8-uSiP -40 to 125; Manufacturer: Texas Instruments; Supplier: Mouser; Supplier Part Number: 595-TPSM83102SIUR; Manufacturer Part Number: TPSM83102SIUR; RoHS: No; Stock: 2997; Pricing: 1=6.7, 10=6.01, 50=6.01, 100=4.93, 1000=4.51, 10000=3.83 (USD); Pins: 8; Topology: Buck-Boost; Length: 2.6mm; Width: 2mm; Thickness: 1.15mm; Supplier 1: Mouser; Supplier Part Number 1: 595-TPSM83102SIUR; Supplier 2: Digikey; Supplier Part Number 2: 296-TPSM83102SIURCT-ND; Supplier 3: Digikey; Supplier Part Number 3: 296-TPSM83102SIURDKR-ND
footprint MicroSiP8_SIU-A_TEX-M
pins: 1 VIN (power), 2 GND (power), 3 GND (power), 4 VOUT (power), 5 SCL (io), 6 GND (power), 7 SDA (io), 8 EN (in)

## TPSM831021SIUR
designator U?
1.5A output current, buck-boost MicroSiP™ power module with integrated inductor with I²C 8-uSiP -40 to 125; Manufacturer: Texas Instruments; Manufacturer Lifecycle Status: ACTIVE; Supplier: Mouser; Supplier Part Number: 595-TPSM831021SIUR; Manufacturer Part Number: TPSM831021SIUR; RoHS: Compliant; Category: Voltage Regulators - Switching; Stock: 2610; Pricing: 1=7.7, 10=6.91, 50=6.91, 100=5.66, 1000=4.06, 10000=3.86 (USD); Length: 2.6mm; Lifecycle Status: Production; Pins: 8; Thickness: 1.15mm; Topology: Buck-Boost; Width: 2mm; ComponentLink1URL: https://octopart.com:443/opatz8j6/c1?t=1vxQQwx7TOAj9FA5SAjYf-PM2GMohsbgC04BrqIyIUoGmA7zdRLwbkPi0-I8FrksUgPxUwbGCYWtwThYV-KnzQfz1oTrUxzeL5cOfaQnthmRq6ADpCLaHp5JrIbb6cgfJIMgeLAStVpvqMRJWc6Yal_MwBsyemKGdD71ihduhM8mRGYBabo_yu3Qx5wXw-xz84pVCfLzcr0zIMJbnrhY9ixfkLjguXZyMK1DFLb7NzaBV3N62BonJqonzahOnLJWkG214iKtXDOwsTkVLMpxpvY7ilA5fe2cf7_u5R_sEAjjMbnvkWUs-qzHlIvYXhlQIX-e4wdexaSxNG4YUph8zgYx4izLfMmtyaps11Lo0lWlOmAtv_UcgO7e3icqZp1421nsrlt2N-g&src-supplier=Texas+Instruments; ComponentLink1Description: https://octopart.com:443/opatz8j6/c1?t=1vxQQwx7TOAj9FA5SAjYf-PM2GMohsbgC04BrqIyIUoGmA7zdRLwbkPi0-I8FrksUgPxUwbGCYWtwThYV-KnzQfz1oTrUxzeL5cOfaQnthmRq6ADpCLaHp5JrIbb6cgfJIMgeLAStVpvqMRJWc6Yal_MwBsyemKGdD71ihduhM8mRGYBabo_yu3Qx5wXw-xz84pVCfLzcr0zIMJbnrhY9ixfkLjguXZyMK1DFLb7NzaBV3N62BonJqonzahOnLJWkG214iKtXDOwsTkVLMpxpvY7ilA5fe2cf7_u5R_sEAjjMbnvkWUs-qzHlIvYXhlQIX-e4wdexaSxNG4YUph8zgYx4izLfMmtyaps11Lo0lWlOmAtv_UcgO7e3icqZp1421nsrlt2N-g&src-supplier=Texas+Instruments; ComponentLink2URL: http://sigma.octopart.com:80/reach_statement/Texas-Instruments-company-64.pdf?src-supplier=Compliance+Statements; ComponentLink2Description: http://sigma.octopart.com:80/reach_statement/Texas-Instruments-company-64.pdf?src-supplier=Compliance+Statements; ComponentLink3URL: http://sigma.octopart.com:80/conflict_mineral_statement/Texas-Instruments-company-63.pdf?src-supplier=Compliance+Statements; ComponentLink3Description: http://sigma.octopart.com:80/conflict_mineral_statement/Texas-Instruments-company-63.pdf?src-supplier=Compliance+Statements; Supplier 1: Mouser; Supplier Part Number 1: 595-TPSM831021SIUR
footprint MicroSiP8_SIU-A_TEX-M
pins: 1 VIN (power), 2 GND (power), 3 GND (power), 4 VOUT (power), 5 SCL (io), 6 GND (power), 7 SDA (io), 8 EN (in)

## TRF7970ARHBT
designator U?
TEXAS INSTRUMENTS         TRF7970ARHBT             IC, RFID/NFC TRANSCEIVE, 32QFN; Frequency: 13.56MHz; Number of Transmitters: 1; Min Supply Voltage: 2.7V; Max Supply Voltage: 5.5V; Data Rate: 848Kbps; Number of Receivers: 2; Max Supply Current: 150mA; Output Power: 200mW; Interface: SPI; .CheckedFootprint: Yes; Supplier 1: Digi-Key; Manufacturer: Texas Instruments; Manufacturer Part Number: TRF7970ARHBT; Stock 1: 3000; Pricing 1: 250=3.68892, 500=3.31004, 750=2.991, 1250=2.7916 (USD); Mount: Surface Mount; Number of Pins: 32; Min Operating Temperature: -40°C; Max Operating Temperature: 110°C; Package Quantity: 1; Type: Integrated Circuit (IC); Packaging: Tape and Reel; Nominal Supply Current: 150mA; Max Frequency: 13.56MHz; Length: 5.15mm; Height: 0.95mm; Width: 5.15mm; Radiation Hardening: No; REACH SVHC: No SVHC; Lead Free: Lead Free; ComponentLink1URL: https://datasheet.ciiva.com/1513/trf7970a-1513600.pdf; ComponentLink1Description: https://datasheet.ciiva.com/1513/trf7970a-1513600.pdf; ComponentLink2URL: https://datasheet.ciiva.com/1577/1558443-1577173.pdf; ComponentLink2Description: https://datasheet.ciiva.com/1577/1558443-1577173.pdf; ComponentLink3URL: https://datasheet.ciiva.com/2803/trf7970a-2803424.pdf; ComponentLink3Description: https://datasheet.ciiva.com/2803/trf7970a-2803424.pdf; ComponentLink4URL: https://datasheet.ciiva.com/2803/trf7970a-2803425.pdf; ComponentLink4Description: https://datasheet.ciiva.com/2803/trf7970a-2803425.pdf; ComponentLink5URL: https://datasheet.ciiva.com/2803/trf7970a-2803426.pdf; ComponentLink5Description: https://datasheet.ciiva.com/2803/trf7970a-2803426.pdf; ComponentLink6URL: https://datasheet.ciiva.com/26019/trf7970a-26019704.pdf; ComponentLink6Description: https://datasheet.ciiva.com/26019/trf7970a-26019704.pdf; ComponentLink7URL: https://datasheet.ciiva.com/14246/trf7970a-14246713.pdf; ComponentLink7Description: https://datasheet.ciiva.com/14246/trf7970a-14246713.pdf; ComponentLink8URL: https://datasheet.ciiva.com/1513/1882431-1513596.pdf; ComponentLink8Description: https://datasheet.ciiva.com/1513/1882431-1513596.pdf; Supplier Part Number 1: 296-29476-2-ND; .CheckedSchematic: Yes
footprint PQFN50P500X500X100_HS-33N (PQFN, 32-Leads, Body 5.00x5.00mm, Pitch 0.50mm, Thermal Pad 3.45x3.45mm, IPC Medium Density)
pins: 1 VDD_A (out), 2 VIN, 3 VDD_RF (out), 4 VDD_PA (in), 5 TX_OUT (out), 6 VSS_PA, 7 VSS_RX, 8 RX_IN1 (in), 9 RX_IN2 (in), 10 VSS, 11 BAND_GAP (out), 12 ASK/OOK (io), 13 IRQ (out), 14 MOD (in), 15 VSS_A, 16 VDD_I/O, 17 I/O_0 (io), 18 I/O_1 (io), 19 I/O_2 (io), 20 I/O_3 (io), 21 I/O_4 (io), 22 I/O_5 (io), 23 I/O_6 (io), 24 I/O_7 (io), 25 EN2 (in), 26 DATA_CLK (in), 27 SYS_CLK (out), 28 EN (in), 29 VSS_D, 30 OSC_OUT, 31 OSC_IN (in), 32 VDD_X (out), 33 EPAD

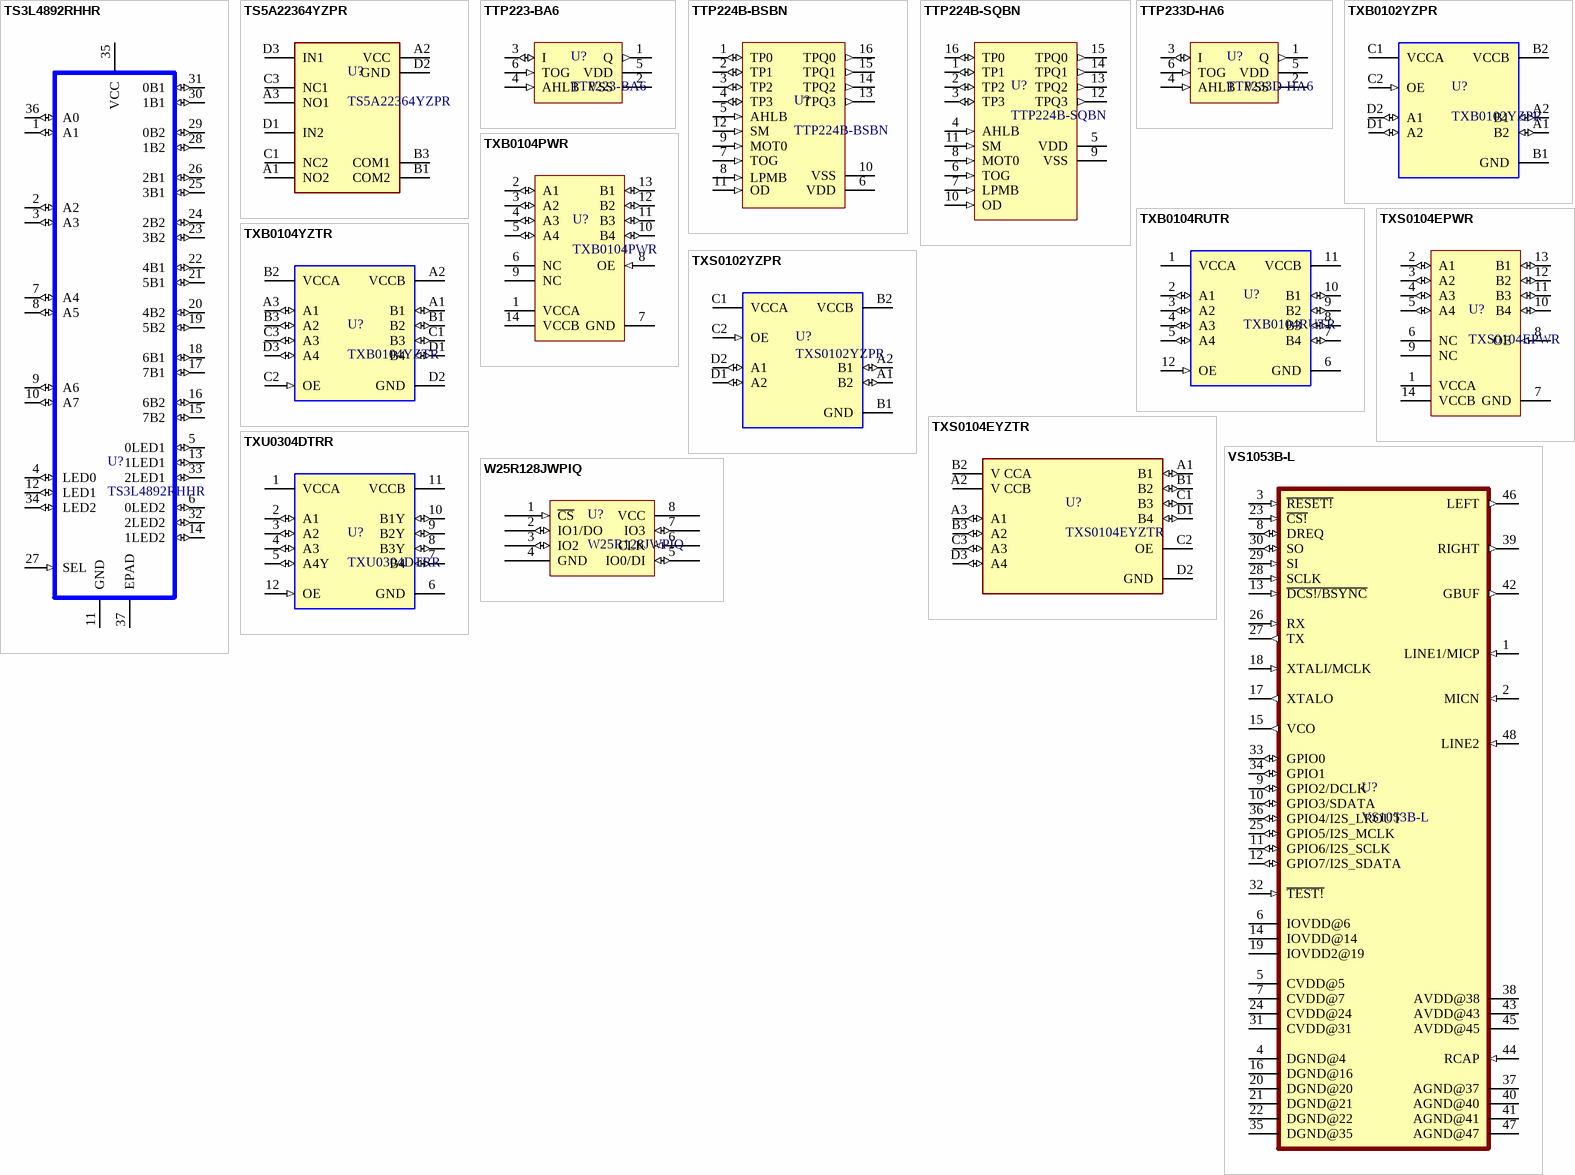
[diagram p26: symbols TS3L4892RHHR to W25R128JWPIQ]

## TS3L4892RHHR
designator U?
IC ETHERNET SWITCH 16X8 36VQFN; Manufacturer: Texas Instruments; Multiplexer/Demultiplexer Circuit: 2:1; Switch Circuit: SPDT; Number of Channels: 11; On-State Resistance (Max): 6 Ohm; Voltage - Supply, Single (V+): 3 V ~ 3.6 V; -3db Bandwidth: 1.1GHz; Supplier 1: Digi-Key; Supplier Part Number 1: 296-24798-6-ND; Manufacturer Part Number: TS3L4892RHHR; RoHS: RoHS Compliant; Category: Integrated Circuits (ICs); Stock 1: 10623; Pricing 1: 1=1.94, 10=1.747, 100=1.4017, 500=1.15208, 1000=0.80005 (EUR); Packaging: Digi-Reel®; Part Status: Active; Applications: Networking; Voltage - Supply, Dual (V±): -; Features: 10/100,1000 Base-T, LVDS, LVPECL; Operating Temperature: -40°C ~ 85°C (TA); Package / Case: 36-VFQFN Exposed Pad; Supplier Device Package: 36-VQFN (6x6); ComponentLink1URL: http://www.ti.com/lit/ds/symlink/ts3l4892.pdf; ComponentLink1Description: http://www.ti.com/lit/ds/symlink/ts3l4892.pdf
ibis TS3L4892_RHH (Model Description)
footprint QFN50P600X600X100_HS-37N (Footprint not found)
pins: 1 A1 (io), 2 A2 (io), 3 A3 (io), 4 LED0 (io), 5 0LED1 (io), 6 0LED2 (io), 7 A4 (io), 8 A5 (io), 9 A6 (io), 10 A7 (io), 11 GND (power), 12 LED1 (io), 13 1LED1 (io), 14 1LED2 (io), 15 7B2 (io), 16 6B2 (io), 17 7B1 (io), 18 6B1 (io), 19 5B2 (io), 20 4B2 (io), 21 5B1 (io), 22 4B1 (io), 23 3B2 (io), 24 2B2 (io), 25 3B1 (io), 26 2B1 (io), 27 SEL (in), 28 1B2 (io), 29 0B2 (io), 30 1B1 (io), 31 0B1 (io), 32 2LED2 (io), 33 2LED1 (io), 34 LED2 (io), 35 VCC (power), 36 A0 (io), 37 EPAD

## TS5A22364YZPR
designator U?
0.65-Ω, 5-V, 2: 1 (SPDT), 2-channel analog switch with negative signaling capability 10-DSBGA -40 to 85; Manufacturer: Texas Instruments; Supplier: Mouser; Supplier Part Number: 595-TS5A22364YZPR; Manufacturer Part Number: TS5A22364YZPR; RoHS: Yes; Category: Interface ICs; Stock: 859; Pricing: 1=1,16, 10=1,04, 50=1,04, 100=0,808, 1000=0,527, 10000=0,44 (USD); ComponentLink1URL: https://datasheet.ciiva.com/1682/ts5a22362-1682465.pdf?src-supplier=Digi-Key; ComponentLink1Description: https://datasheet.ciiva.com/1682/ts5a22362-1682465.pdf?src-supplier=Digi-Key; ComponentLink2URL: https://datasheet.ciiva.com/1682/ts5a22362-1682466.pdf?src-supplier=Digi-Key; ComponentLink2Description: https://datasheet.ciiva.com/1682/ts5a22362-1682466.pdf?src-supplier=Digi-Key; ComponentLink3URL: https://datasheet.ciiva.com/1682/ts5a22362-1682467.pdf?src-supplier=Digi-Key; ComponentLink3Description: https://datasheet.ciiva.com/1682/ts5a22362-1682467.pdf?src-supplier=Digi-Key; Supplier 1: Mouser; Supplier Part Number 1: 595-TS5A22364YZPR
footprint BGA10C50P3X4_136X186X50 (BGA, 10-Leads, Body 1,36x1,86mmx0,50mm, Pitch 0,50mm)
pins: A1 NO2, A2 VCC, A3 NO1, B1 COM2, B3 COM1, C1 NC2, C3 NC1, D1 IN2, D2 GND, D3 IN1

## TTP223-BA6
designator U?
footprint SOT95P285X126-6N (SOT23, 6-Leads, Body 2.90x2.85mm, Pitch 0.95mm, IPC Medium Density)
pins: 1 Q (out), 2 VSS (power), 3 I (io), 4 AHLB (in), 5 VDD (power), 6 TOG (in)

## TTP224B-BSBN
designator U?
.CheckedSchematic: Yes; .CheckedFootprint: Yes
footprint SOP64P600X175-16N (SOP, 16-Leads, Body 4.90x3.90mm, Pitch 0.64mm, IPC Medium Density)
pins: 1 TP0 (io) "I/O", 2 TP1 (io) "I/O", 3 TP2 (io) "I/O", 4 TP3 (io) "I/O", 5 AHLB (in) "I-PL", 6 VDD (power) "P", 7 TOG (in) "I-PL", 8 LPMB (in) "I-PL", 9 MOT0 (in) "I-PH", 10 VSS (power) "P", 11 OD (in) "I-PH", 12 SM (in) "I-PH", 13 TPQ3 (out) "O", 14 TPQ2 (out) "O", 15 TPQ1 (out) "O", 16 TPQ0 (out) "O"

## TTP224B-SQBN
designator U?
footprint QFN50P300X300X80_HS-17N (QFN, 16-Leads, Body 3.00x3.00mm, Pitch 0.50mm, Thermal Pad 1.68x1.68mm, IPC Medium Density)
pins: 1 TP1 (io) "I/O", 2 TP2 (io) "I/O", 3 TP3 (io) "I/O", 4 AHLB (in) "I-PL", 5 VDD (power) "P", 6 TOG (in) "I-PL", 7 LPMB (in) "I-PL", 8 MOT0 (in) "I-PH", 9 VSS (power) "P", 10 OD (in) "I-PH", 11 SM (in) "I-PH", 12 TPQ3 (out) "O", 13 TPQ2 (out) "O", 14 TPQ1 (out) "O", 15 TPQ0 (out) "O", 16 TP0 (io) "I/O"

## TTP233D-HA6
designator U?
1 key Touch Pad Detector IC; Manufacturer: Tontek; Manufacturer Part Number: TTP233D-HA6
footprint SOT90P290X126-6N (SOT23, 6-Leads, Body 2.90x2.90mm, Pitch 0.90mm, IPC Medium Density)
pins: 1 Q (out), 2 VSS (power), 3 I (io), 4 AHLB (in), 5 VDD (power), 6 TOG (in)

## TXB0102YZPR
designator U?
IC VOLT TRANSLATOR 2BIT 8-DSBGA; Manufacturer: Texas Instruments; Logic Function: Translator, Bidirectional; Number of Bits: 2; Input Type: Logic; Data Rate: 100Mbps; Number of Outputs/Channel: 1; Differential - Input:Output: No/No; Propagation Delay (Max): 4ns; Voltage - Supply: 1.2 V ~ 3.6 V, 1.65 V ~ 5.5 V; Supplier 1: Digi-Key; Supplier Part Number 1: 296-21961-6-ND; Manufacturer Part Number: TXB0102YZPR; RoHS: RoHS Compliant; Category: Integrated Circuits (ICs); Stock 1: 16467; Pricing 1: 1=1.01, 10=0.89, 25=0.8028, 100=0.7026, 250=0.61616, 500=0.54646, 750=0.47676, 1000=0.43214 (EUR); Packaging: Digi-Reel®; Output Type: Logic; Number of Channels: 2; Operating Temperature: -40°C ~ 85°C; Package / Case: 8-XFBGA, DSBGA; Supplier Device Package: 8-DSBGA, 8-WCSP (1.9x0.9); Mounting Type: Surface Mount; ComponentLink1URL: http://www.ti.com/lit/ds/symlink/txb0102.pdf; ComponentLink1Description: http://www.ti.com/lit/ds/symlink/txb0102.pdf
footprint BGA8C50P2X4_89X189X50 (BGA, 8-Leads, Body 0.89x1.89mmx0.50mm, Pitch 0.50mm)
pins: A1 B2 (io), A2 B1 (io), B1 GND (power), B2 VCCB, C1 VCCA, C2 OE (in), D1 A2 (io), D2 A1 (io)